# EAGLE library part WIZNET812 (library merriman)
WizNet Ethernet module
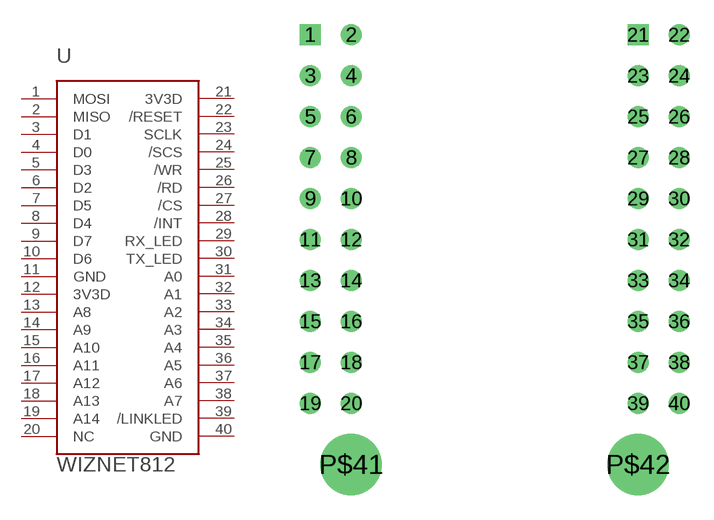
[diagram p1: symbol with the pads of WIZNET; footprint WIZNET]

Designator prefix U

## WIZNET812  [WIZNET]
1  MOSI
2  MISO
3  D1
4  D0
5  D3
6  D2
7  D5
8  D4
9  D7
10  D6
11  GND
12  3V3D
13  A8
14  A9
15  A10
16  A11
17  A12
18  A13
19  A14
20  NC  nc
21  3V3D
22  /RESET
23  SCLK
24  /SCS
25  /WR
26  /RD
27  /CS
28  /INT
29  RX_LED
30  TX_LED
31  A0
32  A1
33  A2
34  A3
35  A4
36  A5
37  A6
38  A7
39  /LINKLED
40  GND

## Footprint WIZNET (pad centres in mm)
WizNet WIZ812JM EthernetSerial interface module
drill 0.8 square: 1 -11.43,7.62; 21 8.89,7.62
drill 0.8 round: 2 -8.89,7.62; 3 -11.43,5.08; 4 -8.89,5.08; 5 -11.43,2.54; 6 -8.89,2.54; 7 -11.43,0; 8 -8.89,0; 9 -11.43,-2.54; 10 -8.89,-2.54; 11 -11.43,-5.08; 12 -8.89,-5.08; 13 -11.43,-7.62; 14 -8.89,-7.62; 15 -11.43,-10.16; 16 -8.89,-10.16; 17 -11.43,-12.7; 18 -8.89,-12.7; 19 -11.43,-15.24; 20 -8.89,-15.24; 22 11.43,7.62; 23 8.89,5.08; 24 11.43,5.08; 25 8.89,2.54; 26 11.43,2.54; 27 8.89,0; 28 11.43,0; 29 8.89,-2.54; 30 11.43,-2.54; 31 8.89,-5.08; 32 11.43,-5.08; 33 8.89,-7.62; 34 11.43,-7.62; 35 8.89,-10.16; 36 11.43,-10.16; 37 8.89,-12.7; 38 11.43,-12.7; 39 8.89,-15.24; 40 11.43,-15.24
drill 0.8 pad 3.81 round: P$41 -8.89,-19.05; P$42 8.89,-19.05